# EAGLE library part ETHERNET_ENC28J60_MODULE (library common_modules)
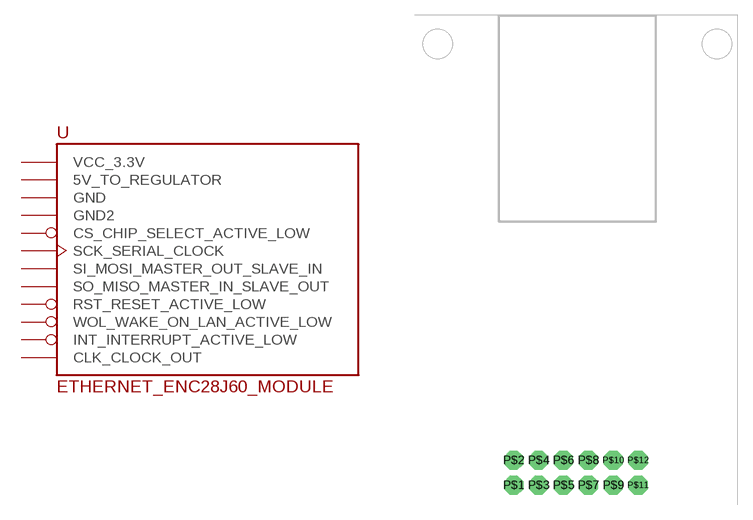
[diagram p2: symbol with the pads of ETHERNET_ENC28J60_MODULE; footprint ETHERNET_ENC28J60_MODULE]

Designator prefix -

## ETHERNET_ENC28J60_MODULE (VALUE: ENC28J60 Module)  [ETHERNET_ENC28J60_MODULE]
P$1  GND  sup
P$2  VCC_3.3V  sup
P$3  CS_CHIP_SELECT_ACTIVE_LOW  in
P$4  RST_RESET_ACTIVE_LOW  in
P$5  SI_MOSI_MASTER_OUT_SLAVE_IN  in
P$6  SCK_SERIAL_CLOCK  in
P$7  WOL_WAKE_ON_LAN_ACTIVE_LOW  out
P$8  SO_MISO_MASTER_IN_SLAVE_OUT  out
P$9  CLK_CLOCK_OUT  out
P$10  INT_INTERRUPT_ACTIVE_LOW  out
P$11  GND2  sup
P$12  5V_TO_REGULATOR  sup

## Footprint ETHERNET_ENC28J60_MODULE (pad centres in mm)
drill 1.2 pad 1.93 octagon: P$1 0,0; P$2 0,2.54; P$3 2.54,0; P$4 2.54,2.54; P$5 5.08,0; P$6 5.08,2.54; P$7 7.62,0; P$8 7.62,2.54; P$9 10.16,0; P$10 10.16,2.54; P$11 12.7,0; P$12 12.7,2.54